# Altium schematic symbol library BLE_breakout.SchLib: 2 symbols
Pins are listed as number, name and electrical type; pins without a type are passive.

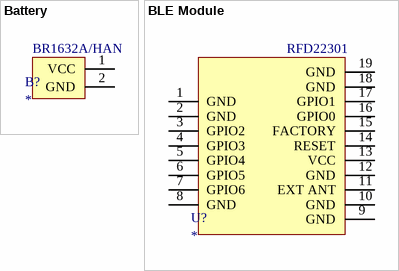
[diagram p0: symbols Battery to BLE Module]

## Battery
designator B?  Manufacturer Part Number: BR1632A/HAN
Manufacturer: Panasonic; Capacity: 120mAh; Output Voltage: 3V; Chemistry/Technology: Lithium; Supplier 1: Newark; Stock 1: 129; Pricing 1: 1=3.3, 5=2.81, 10=2.64, 25=2.43, 50=2.19, 100=1.98, 250=1.77 (USD); Number of Pins: 2; Weight: 1.5g; Min Operating Temperature: -30°C; Max Operating Temperature: 80°C; Package Quantity: 30; Lead Free: Lead Free; ComponentLink1URL: https://datasheet.ciiva.com/14617/70196958-14617420.pdf; ComponentLink1Description: https://datasheet.ciiva.com/14617/70196958-14617420.pdf; Supplier Part Number 1: 40T0041
footprint Battery_type1 (20mm through-hole, 3V)
footprint Battery_type2 (16mm surface mount, 3V)
pins: 1 VCC, 2 GND

## BLE Module
designator U?  Manufacturer Part Number: RFD22301
Manufacturer: RF Digital; Data Rate: 8Mbps; Frequency: 2.4GHz; Sensitivity: -93dBm; Interface: SPI,UART; Current - Receiving: 12mA; Operating Supply Voltage: 3V; Supplier 1: RSComponents; Stock 1: 0; Mount: Surface Mount; Case/Package: SMD/SMT; Min Operating Temperature: -25°C; Max Operating Temperature: 75°C; Packaging: Tray; Package Quantity: 90; Current - Transmitting: 12mA; ComponentLink1URL: https://datasheet.ciiva.com/24153/rfd22301-data-sheet-11-24-13-11-38pm-24153411.pdf; ComponentLink1Description: https://datasheet.ciiva.com/24153/rfd22301-data-sheet-11-24-13-11-38pm-24153411.pdf; Supplier Part Number 1: 801-1689
footprint BLE_module
pins: 1 GND, 2 GND, 3 GPIO2, 4 GPIO3, 5 GPIO4, 6 GPIO5, 7 GPIO6, 8 GND, 9 GND, 10 GND, 11 EXT ANT, 12 GND, 13 VCC, 14 RESET, 15 FACTORY, 16 GPIO0, 17 GPIO1, 18 GND, 19 GND